# Altium footprint library PcbLib1.PcbLib: 7 footprints
Each footprint in its own frame and in the unit in brackets; x right, y up, seen from the top. Pads: shape width x height; smd on the part's side, far side on the other; paste and mask are expansions set on the pad; w line width, h text height; cw(c..) or ccw(c..) is an arc to the next point about the centre after c.
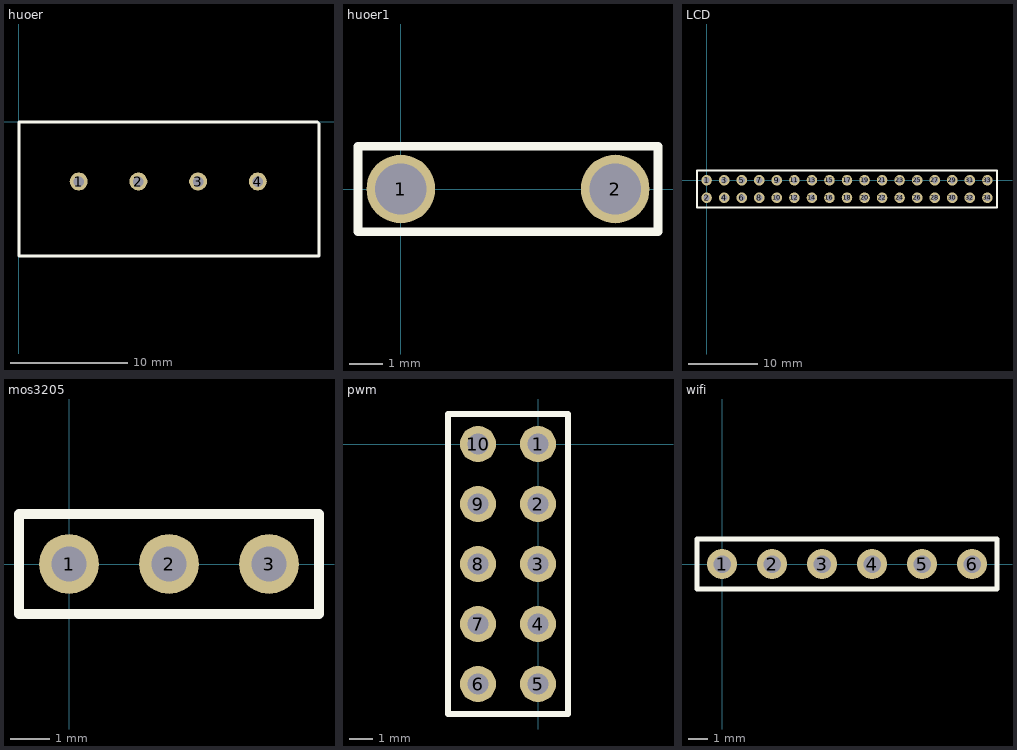
[diagram p0: the footprints below, top view; thin cyan lines are the x and y axes]

## huoer [mil]
pads (4):
  round 60 hole 35: 1(200,-200) 2(400,-200) 3(600,-200) 4(800,-200)
Top Overlay:
  lines w10: 1000,0 0,0 0,-450 1005,-450 1005,-5

## huoer1 [mil]
pads (2):
  round 80 hole 60: 1(0,0) 2(250,0)
Top Overlay:
  lines w10: -50,-50 300,-50 300,50 -50,50 -50,-50

## LCD [mil]
pads (34):
  round 60 hole 35: 1(0,0) 2(0,-100) 3(100,0) 4(100,-100) 5(200,0) 6(200,-100) 7(300,0) 8(300,-100) 9(400,0) 10(400,-100) 11(500,0) 12(500,-100) 13(600,0) 14(600,-100) 15(700,0) 16(700,-100) 17(800,0) 18(800,-100) 19(900,0) 20(900,-100) 21(1000,0) 22(1000,-100) 23(1100,0) 24(1100,-100) 25(1200,0) 26(1200,-100) 27(1300,0) 28(1300,-100) 29(1400,0) 30(1400,-100) 31(1500,0) 32(1500,-100) 33(1600,0) 34(1600,-100)
Top Overlay:
  lines w10: -55,-155 1655,-155 1655,55 -55,55 -55,-155

## mos3205 [mil]
pads (3):
  round 60 hole 35: 1(0,0) 2(100,0) 3(200,0)
Top Overlay:
  lines w10: -50,-50 -50,50 250,50 250,-50 -50,-50

## PCBComponent_1 [mil]

## pwm [mil]
pads (10):
  round 60 hole 35: 1(0,0) 2(0,-100) 3(0,-200) 4(0,-300) 5(0,-400) 6(-100,-400) 7(-100,-300) 8(-100,-200) 9(-100,-100) 10(-100,0)
Top Overlay:
  lines w10: -150,-450 -150,50 50,50 50,-450 -150,-450

## wifi [mil]
pads (6):
  round 60 hole 35: 1(0,0) 2(100,0) 3(200,0) 4(300,0) 5(400,0) 6(500,0)
Top Overlay:
  lines w10: -50,-50 550,-50 550,50 -50,50 -50,-50